# EAGLE library part TPS60132_PWP_20 (library TIAnalog)
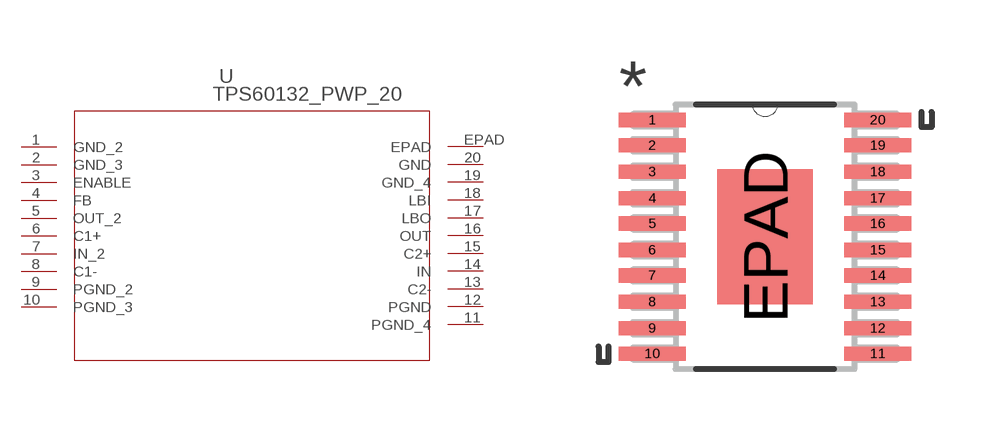
[diagram p5: symbol with the pads of PWP20_3P38X2P4; footprint PWP20_3P38X2P4]

Designator prefix U

## TPS60132_PWP_20 (DATASHEETURL: http://www.ti.com/lit/gpn/TPS60132; DESCRIPTION: Regulated 5V high Efficiency Charge Pump DC/DC Converter; FAMILY_NAME: STEP-UP CHARGE PUMP REGULATOR; GENERIC_PART_NUMBER: TPS60132; INDUSTRY_STD_PKG_TYPE: HTSSOP; MANUFACTURER: Texas Instruments; MANUFACTURER_PART_NUMBER: tps60132_pwp_20; PACKAGE_DESIGNATOR: PWP; PIN_COUNT: 20; VENDOR: Texas Instruments)  [PWP20_3P38X2P4]
1  GND_2  pwr
2  GND_3  pwr
3  ENABLE  in
4  FB  in
5  OUT_2  out
6  C1+  pas
7  IN_2  in
8  C1-  pas
9  PGND_2  pwr
10  PGND_3  pwr
11  PGND_4  pwr
12  PGND  pwr
13  C2-  pas
14  IN  in
15  C2+  pas
16  OUT  out
17  LBO  out
18  LBI  in
19  GND_4  pwr
20  GND  pwr
EPAD  EPAD  pas

## Footprint PWP20_3P38X2P4 (pad centres in mm)
smd 1.676 x 0.356: 1 -2.819,2.921; 2 -2.819,2.286; 3 -2.819,1.626; 4 -2.819,0.965; 5 -2.819,0.33; 6 -2.819,-0.33; 7 -2.819,-0.965; 8 -2.819,-1.626; 9 -2.819,-2.286; 10 -2.819,-2.921; 11 2.819,-2.921; 12 2.819,-2.286; 13 2.819,-1.626; 14 2.819,-0.965; 15 2.819,-0.33; 16 2.819,0.33; 17 2.819,0.965; 18 2.819,1.626; 19 2.819,2.286; 20 2.819,2.921
smd 2.388 x 3.378: EPAD 0,0